# EAGLE library part OPA549 (library opamps)
OPA549: High-voltage, high-current opamp (Burr-Brown) ±30V, ±8A, 500nA bias 5mV offset, 900kHz UGF, 70nV/rt(Hz) noise
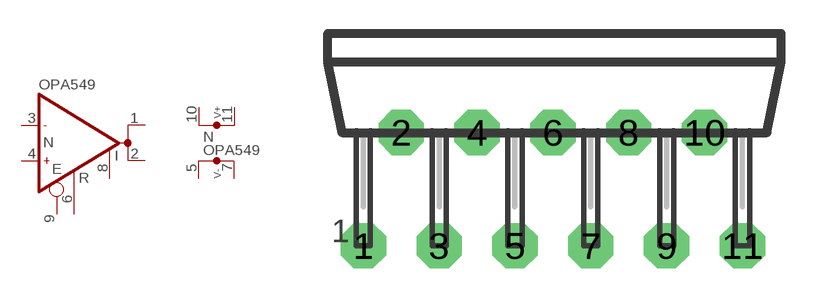
[diagram p246: symbol with the pads of R-PZFM-T11; footprint R-PZFM-T11]

Designator prefix N; gates A=OPA549 G$1=V2+2-B

## OPA549  [R-PZFM-T11]
1  A:OUT  out
2  A:OUT  out
3  A:OP-  in
4  A:OP+  in
5  G$1:V-  pwr
6  A:REF
7  G$1:V-  pwr
8  A:ILIM
9  A:ES
10  G$1:V+  pwr
11  G$1:V+  pwr

## Footprint R-PZFM-T11 (pad centres in mm)
R-PZFM-T11: Power case (Burr-Brown) 11 pins
drill 0.813 pad 2.032 octagon: 1 -8.5,-2.54; 2 -6.8,2.54; 3 -5.1,-2.54; 4 -3.4,2.54; 5 -1.7,-2.54; 6 0,2.54; 7 1.7,-2.54; 8 3.4,2.54; 9 5.1,-2.54; 10 6.8,2.54; 11 8.5,-2.54